# Altium footprint library Connector Footprints.PcbLib: 66 footprints (part 4 of 5)
Each footprint in its own frame and in the unit in brackets; x right, y up, seen from the top. Pads: shape width x height; smd on the part's side, far side on the other; paste and mask are expansions set on the pad; w line width, h text height; cw(c..) or ccw(c..) is an arc to the next point about the centre after c.
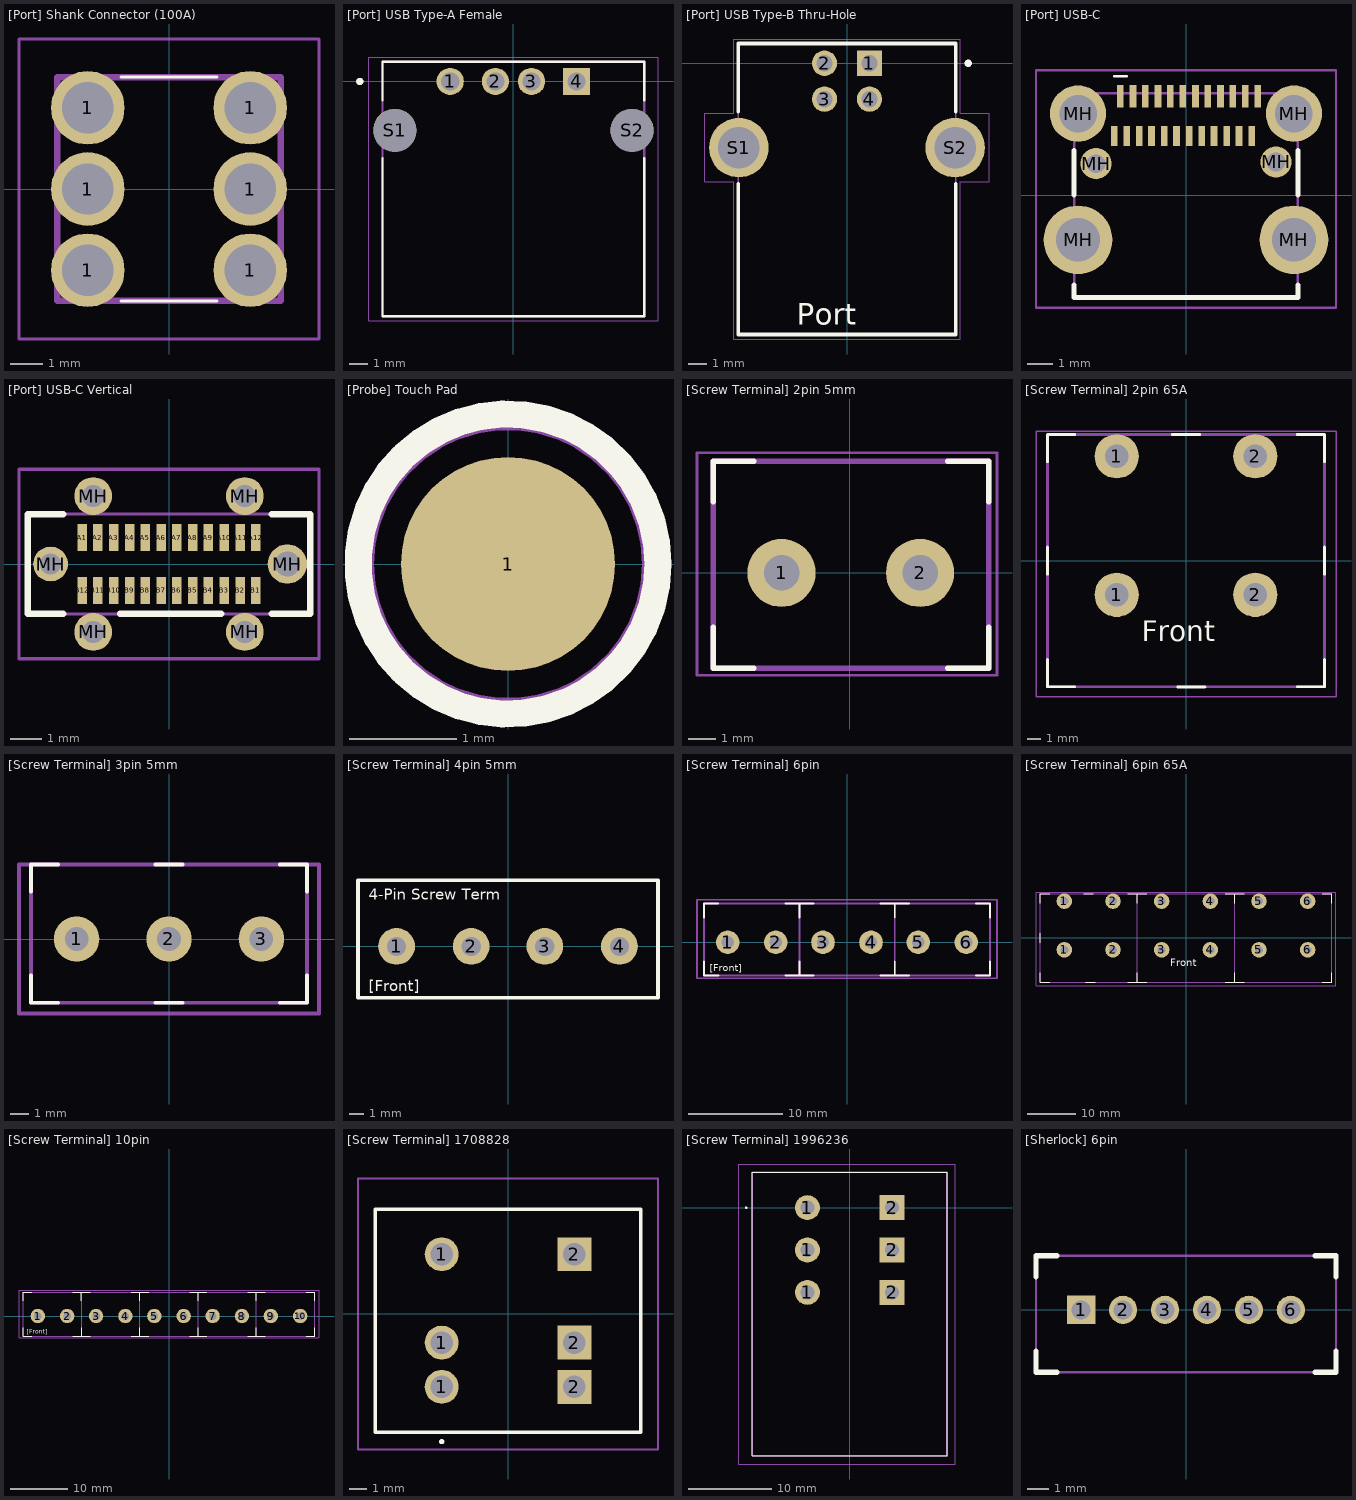
[diagram p3: the footprints below, top view; thin cyan lines are the x and y axes]

## [Port] Shank Connector (100A) [mm]
pads (6):
  round 2.3 hole 1.6: 1(-2.54,-2.54) 1(-2.54,0) 1(-2.54,2.54) 1(2.54,-2.54) 1(2.54,0) 1(2.54,2.54)
Top Overlay:
  lines w0.1: -1.5,-3.5 1.5,-3.5 ; -1.5,3.5 1.5,3.5
Physical Drawing:
  lines w0.2: -3.5,-3.5 3.5,-3.5 3.5,3.5 -3.5,3.5 -3.5,-3.5
Part Outline:
  lines w0.1: -4.69,-4.69 4.69,-4.69 4.69,4.69 -4.69,4.69 -4.69,-4.69
3D body "7461057.stp": height 6, standoff -3.5, extent -3.5,-3.5 3.5,3.5

## [Port] USB Type-A Female [mm]
pads (6):
  round 1.508 hole 1: 1(-3.5,0) 2(-1,0) 3(1,0)
  rect 1.508x1.508 hole 1: 4(3.5,0)
  round 2.38 hole 2.38 unplated: S1(-6.57,-2.71) S2(6.57,-2.71)
Top Overlay:
  circle w0.2: c-8.51,0 r0.1
  lines w0.127: -7.25,-4.26 -7.25,-13.01 7.25,-13.01 7.25,-4.26 ; -7.25,-1.06 -7.25,1.09 7.25,1.09 7.25,-1.06
Physical Drawing:
  circle w0.2: c-8.51,0 r0.1
  lines w0.127: -7.25,-13.01 7.25,-13.01 7.25,1.09 -7.25,1.09 -7.25,-13.01
Part Outline:
  lines w0.05: -8.01,-13.26 -8.01,1.34 8.01,1.34 8.01,-13.26 -8.01,-13.26
3D body "USB Type A Female.STEP": height 7.6, standoff -3.2, extent -7.9,-13.01 7.9,1.09

## [Port] USB Type-B Thru-Hole [mm]
pads (6):
  rect 1.408x1.408 hole 0.9: 1(1.25,0)
  round 1.408 hole 0.9: 2(-1.25,0) 3(-1.25,-2) 4(1.25,-2)
  round 3.316 hole 2.3: S1(-6.02,-4.7) S2(6.02,-4.7)
Top Overlay:
  circle w0.2: c6.75,0 r0.1
  lines w0.2: -6.05,-6.71 -6.05,-15.1 6.05,-15.1 6.05,-6.71 ; -6.05,-2.69 -6.05,1.1 6.05,1.1 6.05,-2.69
  text "Port" at -2.799,-14.55 h1.2
Physical Drawing:
  circle w0.2: c6.75,0 r0.1
  lines w0.1: -6.05,-15.1 6.05,-15.1 6.05,1.1 -6.05,1.1 -6.05,-15.1
Part Outline:
  lines w0.05: -7.93,-6.61 -6.3,-6.61 -6.3,-15.35 6.3,-15.35 6.3,-6.61 7.93,-6.61 7.93,-2.79 6.3,-2.79 6.3,1.35 -6.3,1.35 -6.3,-2.79 -7.93,-2.79 -7.93,-6.61
3D body "USB Type B Female.stp": height 10.7, standoff -3.74, extent -7.25,-15.1 7.25,1.4

## [Port] USB-C [mm]
pads (30):
  rect 0.27x0.9 smd: A1(-2.625,3.965) A2(-2.125,3.965) A3(-1.625,3.965) A4(-1.125,3.965) A5(-0.625,3.965) A6(-0.125,3.965) A7(0.375,3.965) A8(0.875,3.965) A9(1.375,3.965) A10(1.875,3.965) A11(2.375,3.965) A12(2.875,3.965)
  rect 0.27x0.8 smd: B1(2.625,2.365) B2(2.125,2.365) B3(1.625,2.365) B4(1.125,2.365) B5(0.625,2.365) B6(0.125,2.365) B7(-0.375,2.365) B8(-0.875,2.365) B9(-1.375,2.365) B10(-1.875,2.365) B11(-2.375,2.365) B12(-2.875,2.365)
  round 2.75 hole 1.75: MH(-4.32,-1.785) MH(4.32,-1.785)
  round 2.25 hole 1.5: MH(-4.32,3.265) MH(4.32,3.265)
  round 1.25 hole 0.75: MH(-3.6,1.265) MH(3.6,1.33)
Top Overlay:
  lines w0.1: -2.875,4.75 -2.375,4.75
  lines w0.2: -4.47,-3.6 -4.47,-4.085 4.47,-4.085 4.47,-3.6 ; -4.47,0 -4.47,1.8 ; 4.47,0 4.47,1.8
Physical Drawing:
  lines w0.1: -4.47,-4.085 4.47,-4.085 4.47,4.085 -4.47,4.085 -4.47,-4.085
Part Outline:
  lines w0.1: -6,-4.5 6,-4.5 6,5 -6,5 -6,-4.5
3D body "DX07S024JA1R1300.stp": height 2.92, standoff -0.82, extent -4.51,-4.16 4.43,4.01

## [Port] USB-C Vertical [mm]
pads (30):
  rect 0.3x0.85 smd: A1(-2.75,0.835) A2(-2.25,0.835) A3(-1.75,0.835) A4(-1.25,0.835) A5(-0.75,0.835) A6(-0.25,0.835) A7(0.25,0.835) A8(0.75,0.835) A9(1.25,0.835) A10(1.75,0.835) A11(2.25,0.835) A12(2.75,0.835) B1(2.75,-0.835) B2(2.25,-0.835) B3(1.75,-0.835) B4(1.25,-0.835) B5(0.75,-0.835) B6(0.25,-0.835) B7(-0.25,-0.835) B8(-0.75,-0.835) B9(-1.25,-0.835) B10(-1.75,-0.835) B11(-2.25,-0.835) B12(-2.75,-0.835)
  round 1.1 hole 0.66: MH(-3.75,0)
  round 1.2 hole 0.7: MH(-2.4,-2.15) MH(-2.4,2.15) MH(2.4,-2.15) MH(2.4,2.15)
  round 1.25 hole 0.8: MH(3.75,0)
Top Overlay:
  lines w0.2: -3.35,-1.58 -4.47,-1.58 -4.47,1.58 -3.35,1.58 ; -1.55,-1.58 1.65,-1.58 ; 3.25,-1.58 4.47,-1.58 4.47,1.58 3.25,1.58
Physical Drawing:
  lines w0.1: -4.47,-1.58 -4.47,1.58 4.47,1.58 4.47,-1.58 -4.47,-1.58
Part Outline:
  lines w0.1: -4.75,-3 -4.75,3 4.75,3 4.75,-3 -4.75,-3
3D body "1332646.stp": height 6.62, standoff -1.18, extent -4.47,-2.3 4.47,2.3

## [Probe] Touch Pad [mm]
pads (1):
  round 2 smd: 1(0,0)
Top Overlay:
  circle w0.254: c0,0 r1.4
Part Outline:
  circle w0.1: c0,0 r1.3

## [Screw Terminal] 2pin 5mm [mm]
pads (2):
  round 2.5 hole 1.3: 1(-2.5,0) 2(2.58,0)
Top Overlay:
  lines w0.2: -5.01,-2 -5.01,-3.5 -3.51,-3.5 ; -5.01,2.6 -5.01,4.1 -3.51,4.1 ; 3.59,-3.5 5.09,-3.5 5.09,-2 ; 3.59,4.1 5.09,4.1 5.09,2.6
Physical Drawing:
  lines w0.2: -5.01,-3.5 -5.01,4.1 5.09,4.1 5.09,-3.5 -5.01,-3.5
Part Outline:
  lines w0.1: -5.6,-3.75 -5.6,4.4 5.4,4.4 5.4,-3.75 -5.6,-3.75
3D body "TB002-500-02BE.stp": height 9.99, standoff -4.36, extent -5.45,-3.5 5.05,4.1

## [Screw Terminal] 2pin 65A [mm]
pads (4):
  round 3.25 hole 1.7: 1(-5.08,-2.51) 1(-5.08,7.65) 2(5.08,-2.51) 2(5.08,7.65)
Top Overlay:
  lines w0.2: -10.16,-7.25 -10.16,-9.25 -8.16,-9.25 ; -10.16,-1 -10.16,1 ; -10.16,7.25 -10.16,9.25 -8.16,9.25 ; -1,9.25 1,9.25 ; -0.6,-9.27 1.4,-9.27 ; 8.16,-9.25 10.16,-9.25 10.16,-7.25 ; 8.16,9.25 10.16,9.25 10.16,7.25 ; 10.16,-1 10.16,1
  text "Front" at -3.249,-5.9 h1.5
Physical Drawing:
  lines w0.2: -10.16,-9.25 10.16,-9.25 10.16,9.25 -10.16,9.25 -10.16,-9.25
Part Outline:
  lines w0.1: -11,-10 11,-10 11,9.5 -11,9.5 -11,-10
3D body "1986660-2.stp": height 28.49, standoff -4.51, extent -10.09,-9.27 10.89,9.21

## [Screw Terminal] 3pin 5mm [mm]
pads (3):
  round 2.5 hole 1.3: 1(-5.08,0) 2(0,0) 3(5.08,0)
Top Overlay:
  lines w0.2: -7.59,-2 -7.59,-3.5 -6.09,-3.5 ; -7.59,2.6 -7.59,4.1 -6.09,4.1 ; -0.75,-3.5 0.75,-3.5 ; -0.75,4.1 0.75,4.1 ; 6.09,-3.5 7.59,-3.5 7.59,-2 ; 6.09,4.1 7.59,4.1 7.59,2.6
Physical Drawing:
  lines w0.2: -7.59,-3.5 7.59,-3.5 7.59,4.1 -7.59,4.1 -7.59,-3.5
Part Outline:
  lines w0.2: -8.25,-4.1 8.25,-4.1 8.25,4.1 -8.25,4.1 -8.25,-4.1
3D body "TB002-500-03BE.stp": height 10, standoff -4.35, extent -8,-3.5 7.5,4.1

## [Screw Terminal] 4pin 5mm [mm]
pads (4):
  round 2.5 hole 1.3: 1(-7.58,0) 2(-2.5,0) 3(2.5,0) 4(7.58,0)
Top Overlay:
  lines w0.254: -10.2,-3.5 10.2,-3.5 10.2,4.5 -10.2,4.5 -10.2,-3.5
  text "[Front]" at -9.462,-3.042 h0.75
  text "4-Pin Screw Term" at -9.462,3.181 h0.75
3D body "TB002-500-02BE.stp": height 9.99, standoff -4.36, extent -0.41,-3.5 10.09,4.1
3D body "TB002-500-02BE.stp": height 9.99, standoff -4.36, extent -10.53,-3.5 -0.03,4.1

## [Screw Terminal] 6pin [mm]
pads (6):
  round 2.5 hole 1.3: 1(-12.62,0) 2(-7.54,0) 3(-2.54,0) 4(2.54,0) 5(7.54,0) 6(12.62,0)
Top Overlay:
  lines w0.2: -15.15,2.6 -15.15,4.1 -13.65,4.1 ; -15.11,-2 -15.11,-3.5 -13.61,-3.5 ; -6.53,-3.5 -5.03,-3.5 ; -6.53,4.1 -5.03,4.1 ; -5.03,-2 -5.03,-3.5 ; -5.03,2.6 -5.03,4.1 ; -3.53,-3.5 -5.03,-3.5 ; -3.53,4.1 -5.03,4.1 ; 3.55,-3.5 5.05,-3.5 ; 3.55,4.1 5.05,4.1 ; 5.05,-2 5.05,-3.5 ; 5.05,2.6 5.05,4.1 ; 6.55,-3.5 5.05,-3.5 ; 6.55,4.1 5.05,4.1 ; 13.63,-3.5 15.13,-3.5 15.13,-2 ; 13.63,4.1 15.13,4.1 15.13,2.6
  text "[Front]" at -14.502,-3.042 h0.75
Physical Drawing:
  lines w0.2: -15.13,-3.5 15.13,-3.5 15.13,4.1 -15.13,4.1 ; -15.11,-3.5 -15.11,4.1 ; -5.03,-3.5 -5.03,4.1 ; 5.05,-3.5 5.05,4.1
Part Outline:
  lines w0.2: -15.87,-3.8 15.87,-3.8 15.87,4.5 -15.87,4.5 -15.87,-3.8
3D body "TB002-500-02BE.stp": height 9.99, standoff -4.36, extent -15.53,-3.5 -5.03,4.1
3D body "TB002-500-02BE.stp": height 9.99, standoff -4.36, extent -5.45,-3.5 5.05,4.1
3D body "TB002-500-02BE.stp": height 9.99, standoff -4.36, extent 4.63,-3.5 15.13,4.1

## [Screw Terminal] 6pin 65A [mm]
pads (12):
  round 3.25 hole 1.7: 1(-25.4,-2.51) 1(-25.4,7.65) 2(-15.24,-2.51) 2(-15.24,7.65) 3(-5.08,-2.51) 3(-5.08,7.65) 4(5.08,-2.51) 4(5.08,7.65) 5(15.24,-2.51) 5(15.24,7.65) 6(25.4,-2.51) 6(25.4,7.65)
Top Overlay:
  lines w0.2: -30.48,-7.25 -30.48,-9.25 -28.48,-9.25 ; -30.48,-1 -30.48,1 ; -30.48,7.25 -30.48,9.25 -28.48,9.25 ; -21.32,9.25 -19.32,9.25 ; -20.92,-9.27 -18.92,-9.27 ; -12.16,-9.25 -10.16,-9.25 ; -12.16,9.25 -10.16,9.25 ; -10.16,-7.25 -10.16,-9.25 ; -10.16,7.25 -10.16,9.25 ; -8.16,-9.25 -10.16,-9.25 ; -8.16,9.25 -10.16,9.25 ; 8.16,-9.25 10.16,-9.25 ; 8.16,9.25 10.16,9.25 ; 10.16,-7.25 10.16,-9.25 ; 10.16,7.25 10.16,9.25 ; 12.16,-9.25 10.16,-9.25 ; 12.16,9.25 10.16,9.25 ; 28.48,-9.25 30.48,-9.25 30.48,-7.25 ; 28.48,9.25 30.48,9.25 30.48,7.25
  text "Front" at -3.249,-5.9 h1.5
Physical Drawing:
  lines w0.2: -10.16,-9.25 -10.16,9.25 ; 10.16,-9.25 10.16,9.25 ; -30.48,-9.25 30.48,-9.25 30.48,9.25 -30.48,9.25 -30.48,-9.25
Part Outline:
  lines w0.1: -31.32,-10 31.32,-10 31.32,9.5 -31.32,9.5 -31.32,-10
3D body "1986660-2.stp": height 28.49, standoff -4.51, extent 10.23,-9.27 31.21,9.21
3D body "1986660-2.stp": height 28.49, standoff -4.51, extent -10.09,-9.27 10.89,9.21
3D body "1986660-2.stp": height 28.49, standoff -4.51, extent -30.41,-9.27 -9.43,9.21

## [Screw Terminal] 10pin [mm]
pads (10):
  round 2.5 hole 1.3: 1(-22.7,0) 2(-17.62,0) 3(-12.62,0) 4(-7.54,0) 5(-2.54,0) 6(2.54,0) 7(7.54,0) 8(12.62,0) 9(17.62,0) 10(22.7,0)
Top Overlay:
  lines w0.2: -25.21,-2 -25.21,-3.5 -23.71,-3.5 ; -25.21,2.6 -25.21,4.1 -23.71,4.1 ; -16.65,4.1 -15.15,4.1 ; -16.61,-3.5 -15.11,-3.5 ; -15.15,2.6 -15.15,4.1 ; -15.11,-2 -15.11,-3.5 ; -13.65,4.1 -15.15,4.1 ; -13.61,-3.5 -15.11,-3.5 ; -6.53,-3.5 -5.03,-3.5 ; -6.53,4.1 -5.03,4.1 ; -5.03,-2 -5.03,-3.5 ; -5.03,2.6 -5.03,4.1 ; -3.53,-3.5 -5.03,-3.5 ; -3.53,4.1 -5.03,4.1 ; 3.55,-3.5 5.05,-3.5 ; 3.55,4.1 5.05,4.1 ; 5.05,-2 5.05,-3.5 ; 5.05,2.6 5.05,4.1 ; 6.55,-3.5 5.05,-3.5 ; 6.55,4.1 5.05,4.1 ; 13.63,-3.5 15.13,-3.5 ; 13.63,4.1 15.13,4.1 ; 15.13,-2 15.13,-3.5 ; 15.13,2.6 15.13,4.1 ; 16.63,-3.5 15.13,-3.5 ; 16.63,4.1 15.13,4.1 ; 23.71,-3.5 25.21,-3.5 25.21,-2 ; 23.71,4.1 25.21,4.1 25.21,2.6
  text "[Front]" at -24.582,-3.042 h0.75
Physical Drawing:
  lines w0.2: -15.11,-3.5 -15.11,4.1 ; -5.03,-3.5 -5.03,4.1 ; 5.05,-3.5 5.05,4.1 ; 15.13,-3.5 15.13,4.1 ; -25.21,-3.5 -25.21,4.1 25.21,4.1 25.21,-3.5 -25.21,-3.5
Part Outline:
  lines w0.2: -25.95,-3.8 -25.95,4.5 25.95,4.5 25.95,-3.8 -25.95,-3.8
3D body "TB002-500-02BE.stp": height 9.99, standoff -4.36, extent -25.65,-3.5 -15.15,4.1
3D body "TB002-500-02BE.stp": height 9.99, standoff -4.36, extent -15.53,-3.5 -5.03,4.1
3D body "TB002-500-02BE.stp": height 9.99, standoff -4.36, extent -5.45,-3.5 5.05,4.1
3D body "TB002-500-02BE.stp": height 9.99, standoff -4.36, extent 4.63,-3.5 15.13,4.1
3D body "TB002-500-02BE.stp": height 9.99, standoff -4.36, extent 14.71,-3.5 25.21,4.1

## [Screw Terminal] 1708828 [mm]
pads (6):
  round 1.95 hole 1.3: 1(-3.81,-4.185) 1(-3.81,-1.645) 1(-3.81,3.435)
  rect 1.95x1.95 hole 1.3: 2(3.81,-4.185) 2(3.81,-1.645) 2(3.81,3.435)
Top Overlay:
  lines w0.2: -3.81,-7.385 ccw(c-3.81,-7.335) -3.81,-7.285 ; -3.81,-7.385 cw(c-3.81,-7.335) -3.81,-7.285 ; -3.81,-7.385 ccw(c-3.81,-7.335) -3.81,-7.285 ; -7.62,-6.785 -7.62,6.015 7.62,6.015 7.62,-6.785 -7.62,-6.785
Physical Drawing:
  lines w0.1: -7.62,-6.785 -7.62,6.015 7.62,6.015 7.62,-6.785 -7.62,-6.785
Part Outline:
  lines w0.1: -8.62,-7.785 -8.62,7.785 8.62,7.785 8.62,-7.785 -8.62,-7.785
3D body "1708828.stp": height 30.6, standoff -4.5, extent -7.62,-6.775 7.62,6.025

## [Screw Terminal] 1996236 [mm]
pads (6):
  round 3 hole 1.7: 1(-5.08,-10.16) 1(-5.08,-5.08) 1(-5.08,0)
  rect 3x3 hole 1.7: 2(5.08,-10.16) 2(5.08,-5.08) 2(5.08,0)
Top Overlay:
  circle w0.2: c-12.43,0 r0.05
  lines w0.1: -11.68,-29.76 11.68,-29.76 11.68,4.24 -11.68,4.24 -11.68,-29.76
Physical Drawing:
  lines w0.2: -11.68,-29.76 11.68,-29.76 11.68,4.24 -11.68,4.24 -11.68,-29.76
Part Outline:
  lines w0.05: -13.33,-30.76 12.68,-30.76 12.68,5.24 -13.33,5.24 -13.33,-30.76
3D body "1996236.stp": height 13.4, standoff -4.1, extent -11.569,-29.762 11.791,4.238

## [Sherlock] 6pin [mm] "2.00mm pitch"
pads (6):
  rect 1.35x1.35 hole 0.9: 1(-5,0)
  round 1.35 hole 0.9: 2(-3,0) 3(-1,0) 4(1,0) 5(3,0) 6(5,0)
Top Overlay:
  lines w0.254: -7.15,-1.97 -7.15,-2.97 -6.15,-2.97 ; -7.15,1.58 -7.15,2.58 -6.15,2.58 ; 6.15,-2.97 7.15,-2.97 7.15,-1.97 ; 6.15,2.58 7.15,2.58 7.15,1.58
Physical Drawing:
  lines w0.1: -7.15,-2.97 7.15,-2.97 7.15,2.58 -7.15,2.58 -7.15,-2.97
3D body "35362-0650.stp": height 8.5, standoff -3.3, extent -7.15,-2.97 7.15,2.58